# EAGLE library part PQA50-D (library PP_PowerIC)
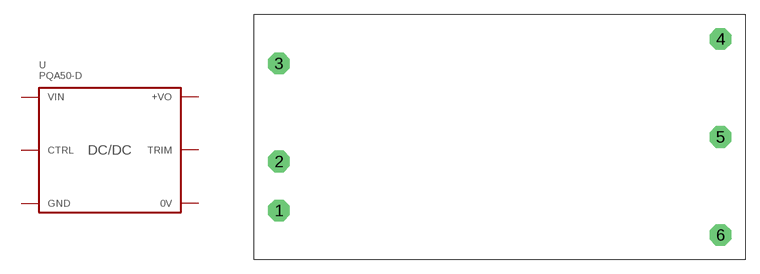
[diagram p18: symbol with the pads of PQA50-D; footprint PQA50-D]

Designator prefix U

## PQA50-D  [PQA50-D]
1  VIN
2  GND
3  CTRL
4  TRIM
5  0V
6  +VO

## Footprint PQA50-D (pad centres in mm)
drill 1.5 octagon: 1 0,0; 2 0,5.08; 3 0,15.24; 4 45.72,17.78; 5 45.72,7.62; 6 45.72,-2.54